# EAGLE library part LTC2850IS8PBF (library LTC2850IS8PBF)
3.3V 20Mbps RS485/RS422 Transceivers Source: Datasheet
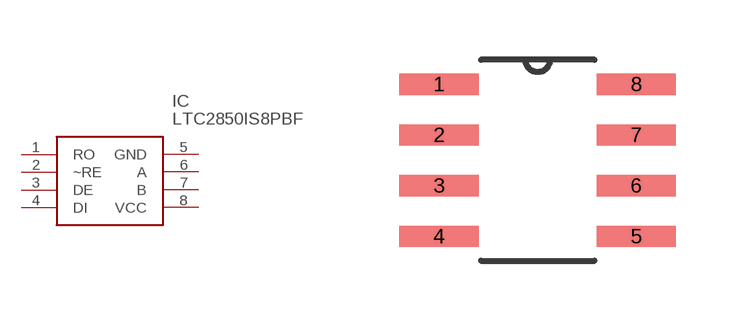
[diagram p0: symbol with the pads of SOIC127P600X175-8N; footprint SOIC127P600X175-8N]

Designator prefix IC

## LTC2850IS8PBF (Arrow_Part_Number: LTC2850IS8PBF; Description: 3.3V 20Mbps RS485/RS422 Transceivers; Height: mm; Manufacturer_Name: Linear Technology; Manufacturer_Part_Number: LTC2850IS8PBF)  [SOIC127P600X175-8N]
1  RO
2  ~RE
3  DE
4  DI
5  GND
6  A
7  B
8  VCC

## Footprint SOIC127P600X175-8N (pad centres in mm)
SOIC127P600X175-8N
smd 1.981 x 0.533: 1 -2.464,1.905; 2 -2.464,0.635; 3 -2.464,-0.635; 4 -2.464,-1.905; 5 2.464,-1.905; 6 2.464,-0.635; 7 2.464,0.635; 8 2.464,1.905